# Altium integrated library IC_Texas Instruments_LM2830XMF_NOPB.IntLib: 1 symbol
Pins are listed as number, name and electrical type; pins without a type are passive.

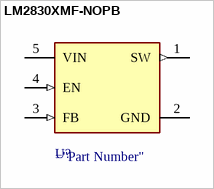
[diagram p0: symbol LM2830XMF-NOPB]

## LM2830XMF-NOPB
designator U?  (value not drawn)
pins: 1 SW (out), 2 GND (power), 3 FB (in), 4 EN (in), 5 VIN (power)